# Altium integrated library Renesas Diode.IntLib: 1609 symbols (part 24 of 31)
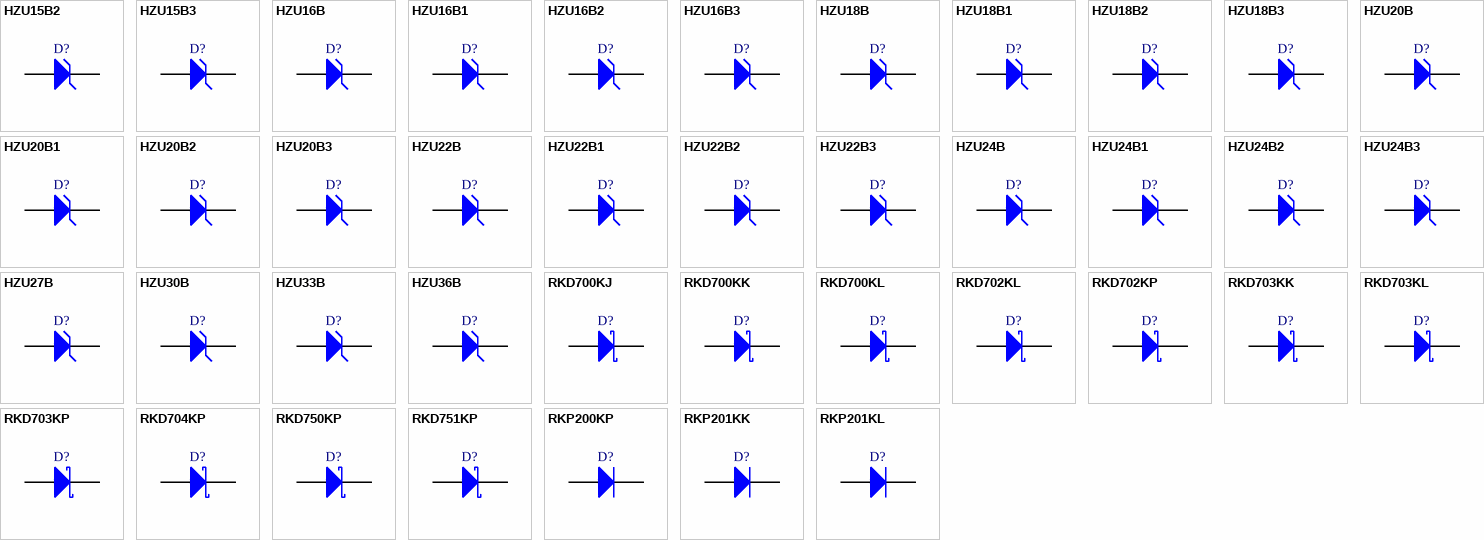
[diagram p68: symbols HZU15B2 to RKP201KL]

## RKD703KK
designator D?
Silicon Schottky Barrier Diode for High Speed Switching; Published: 12-Feb-2010; DatasheetVersion: Rev.2.00, Nov-2009; PackageVersion: Oct-2006; PackageReference: PUSF0002ZB-A; Publisher: Altium Limited; PackageDescription: 2-Pin Plastic Small Outline Diode, Flat Leads, Body 0.6 x 1.0 mm (SFP); ComponentLink1Description: Manufacturer Link; ComponentLink1URL: http://sg.renesas.com/fmwk.jsp?cnt=diode_landing.jsp&fp=/products/discrete/diodes/; ComponentLink2Description: Datasheet; ComponentLink2URL: http://documentation.renesas.com/eng/products/diode/rej03g1833_rkd703kkds.pdf; ComponentLink3Description: Packaging Specification; ComponentLink3URL: http://sg.renesas.com/media/products/common_info/package/pdf/diode/code/pusf0002zb_a.pdf
footprint PUSF0002ZB-A (SOD, 2-Flat Leads, Body 0.6x1.0x0.55mm, Renesas Recommended)
signal-integrity model RKD703KK
pins: 1 K, 2 A

## RKD703KL
designator D?
Silicon Schottky Barrier Diode for high Speed Switching; Published: 12-Feb-2010; DatasheetVersion: Rev.2.00, Oct-2009; PackageVersion: Oct-2006; PackageReference: PXSF0002ZA-A; Publisher: Altium Limited; PackageDescription: 2-Pin Plastic Small Outline Diode, Flat Leads, Body 0.6 x 0.8 mm (EFP); ComponentLink1Description: Manufacturer Link; ComponentLink1URL: http://sg.renesas.com/fmwk.jsp?cnt=diode_landing.jsp&fp=/products/discrete/diodes/; ComponentLink2Description: Datasheet; ComponentLink2URL: http://documentation.renesas.com/eng/products/diode/rej03g1756_rkd703klds.pdf; ComponentLink3Description: Packaging Specification; ComponentLink3URL: http://sg.renesas.com/media/products/common_info/package/pdf/diode/code/pxsf0002za_a.pdf
footprint PXSF0002ZA-A (SOD, 2-Flat Leads, Body 0.6x0.8x0.5mm, Renesas Recommended)
signal-integrity model RKD703KL
pins: 1 K, 2 A

## RKD703KP
designator D?
Silicon Schottky Barrier Diode for High Speed Switching; Published: 12-Feb-2010; DatasheetVersion: Rev.1.00, Nov-2008; PackageVersion: Jul-2006; PackageReference: PXSN0002ZB-A; Publisher: Altium Limited; PackageDescription: Chip Diode 0201 Case Size; ComponentLink1Description: Manufacturer Link; ComponentLink1URL: http://sg.renesas.com/fmwk.jsp?cnt=diode_landing.jsp&fp=/products/discrete/diodes/; ComponentLink2Description: Datasheet; ComponentLink2URL: http://documentation.renesas.com/eng/products/diode/rej03g1757_rkd703kpds.pdf; ComponentLink3Description: Packaging Specification; ComponentLink3URL: http://sg.renesas.com/media/products/common_info/package/pdf/diode/code/pxsn0002zb_a.pdf
footprint PXSN0002ZB-A_V (Chip Diode; Body 0.62x0.32mm, Renesas Recommended)
footprint PXSN0002ZB-A_N (Chip Diode; Body 0.62x0.32mm, IPC Medium Density)
footprint PXSN0002ZB-A_L (Chip Diode; Body 0.62x0.32mm, IPC High Density)
footprint PXSN0002ZB-A_M (Chip Diode; Body 0.62x0.32mm, IPC Low Density)
signal-integrity model RKD703KP
pins: 1 K, 2 A

## RKD704KP
designator D?
Silicon Schottky Barrier Diode for High Speed Switching; Published: 12-Feb-2010; DatasheetVersion: Rev.1.00, Jun-2009; PackageVersion: Jul-2006; PackageReference: PXSN0002ZB-A; Publisher: Altium Limited; PackageDescription: Chip Diode 0201 Case Size; ComponentLink1Description: Manufacturer Link; ComponentLink1URL: http://sg.renesas.com/fmwk.jsp?cnt=diode_landing.jsp&fp=/products/discrete/diodes/; ComponentLink2Description: Datasheet; ComponentLink2URL: http://documentation.renesas.com/eng/products/diode/rej03g1781_rkd704kpds.pdf; ComponentLink3Description: Packaging Specification; ComponentLink3URL: http://sg.renesas.com/media/products/common_info/package/pdf/diode/code/pxsn0002zb_a.pdf
footprint PXSN0002ZB-A_V (Chip Diode; Body 0.62x0.32mm, Renesas Recommended)
footprint PXSN0002ZB-A_N (Chip Diode; Body 0.62x0.32mm, IPC Medium Density)
footprint PXSN0002ZB-A_L (Chip Diode; Body 0.62x0.32mm, IPC High Density)
footprint PXSN0002ZB-A_M (Chip Diode; Body 0.62x0.32mm, IPC Low Density)
signal-integrity model RKD704KP
pins: 1 K, 2 A

## RKD750KP
designator D?
Silicon Schottky Barrier Diode for Detector; Published: 12-Feb-2010; DatasheetVersion: Rev.2.00, Feb-2007; PackageVersion: Jul-2006; PackageReference: PXSN0002ZB-A; Publisher: Altium Limited; PackageDescription: Chip Diode 0201 Case Size; ComponentLink1Description: Manufacturer Link; ComponentLink1URL: http://sg.renesas.com/fmwk.jsp?cnt=diode_landing.jsp&fp=/products/discrete/diodes/; ComponentLink2Description: Datasheet; ComponentLink2URL: http://documentation.renesas.com/eng/products/diode/rej03g1460_rkd750kp.pdf; ComponentLink3Description: Packaging Specification; ComponentLink3URL: http://sg.renesas.com/media/products/common_info/package/pdf/diode/code/pxsn0002zb_a.pdf
footprint PXSN0002ZB-A_V (Chip Diode; Body 0.62x0.32mm, Renesas Recommended)
footprint PXSN0002ZB-A_N (Chip Diode; Body 0.62x0.32mm, IPC Medium Density)
footprint PXSN0002ZB-A_L (Chip Diode; Body 0.62x0.32mm, IPC High Density)
footprint PXSN0002ZB-A_M (Chip Diode; Body 0.62x0.32mm, IPC Low Density)
signal-integrity model RKD750KP
pins: 1 K, 2 A

## RKD751KP
designator D?
Silicon Schottky Barrier Diode for Detector; Published: 12-Feb-2010; DatasheetVersion: Rev.2.00, Feb-2007; PackageVersion: Jul-2006; PackageReference: PXSN0002ZB-A; Publisher: Altium Limited; PackageDescription: Chip Diode 0201 Case Size; ComponentLink1Description: Manufacturer Link; ComponentLink1URL: http://sg.renesas.com/fmwk.jsp?cnt=diode_landing.jsp&fp=/products/discrete/diodes/; ComponentLink2Description: Datasheet; ComponentLink2URL: http://documentation.renesas.com/eng/products/diode/rej03g1485_rkd751kp.pdf; ComponentLink3Description: Packaging Specification; ComponentLink3URL: http://sg.renesas.com/media/products/common_info/package/pdf/diode/code/pxsn0002zb_a.pdf
footprint PXSN0002ZB-A_V (Chip Diode; Body 0.62x0.32mm, Renesas Recommended)
footprint PXSN0002ZB-A_N (Chip Diode; Body 0.62x0.32mm, IPC Medium Density)
footprint PXSN0002ZB-A_L (Chip Diode; Body 0.62x0.32mm, IPC High Density)
footprint PXSN0002ZB-A_M (Chip Diode; Body 0.62x0.32mm, IPC Low Density)
signal-integrity model RKD751KP
pins: 1 K, 2 A

## RKP200KP
designator D?
Silicon Epitaxial Planar Pin Diode for Antenna Switching; Published: 12-Feb-2010; DatasheetVersion: Rev.3.00, Feb-2007; PackageVersion: Jul-2006; PackageReference: PXSN0002ZB-A; Publisher: Altium Limited; PackageDescription: Chip Diode 0201 Case Size; ComponentLink1Description: Manufacturer Link; ComponentLink1URL: http://sg.renesas.com/fmwk.jsp?cnt=diode_landing.jsp&fp=/products/discrete/diodes/; ComponentLink2Description: Datasheet; ComponentLink2URL: http://documentation.renesas.com/eng/products/diode/rej03g1303_rkp200kp.pdf; ComponentLink3Description: Packaging Specification; ComponentLink3URL: http://sg.renesas.com/media/products/common_info/package/pdf/diode/code/pxsn0002zb_a.pdf
footprint PXSN0002ZB-A_V (Chip Diode; Body 0.62x0.32mm, Renesas Recommended)
footprint PXSN0002ZB-A_N (Chip Diode; Body 0.62x0.32mm, IPC Medium Density)
footprint PXSN0002ZB-A_L (Chip Diode; Body 0.62x0.32mm, IPC High Density)
footprint PXSN0002ZB-A_M (Chip Diode; Body 0.62x0.32mm, IPC Low Density)
signal-integrity model RKP200KP
pins: 1 K, 2 A

## RKP201KK
designator D?
Silicon Epitaxial Trench Pin Diode for Antenna Switching; Published: 12-Feb-2010; DatasheetVersion: Rev.2.00, Sep-2005; PackageVersion: Oct-2006; PackageReference: PUSF0002ZB-A; Publisher: Altium Limited; PackageDescription: 2-Pin Plastic Small Outline Diode, Flat Leads, Body 0.6 x 1.0 mm (SFP); ComponentLink1Description: Manufacturer Link; ComponentLink1URL: http://sg.renesas.com/fmwk.jsp?cnt=diode_landing.jsp&fp=/products/discrete/diodes/; ComponentLink2Description: Datasheet; ComponentLink2URL: http://documentation.renesas.com/eng/products/diode/rej03g1224_rkp201kk.pdf; ComponentLink3Description: Packaging Specification; ComponentLink3URL: http://sg.renesas.com/media/products/common_info/package/pdf/diode/code/pusf0002zb_a.pdf
footprint PUSF0002ZB-A (SOD, 2-Flat Leads, Body 0.6x1.0x0.55mm, Renesas Recommended)
signal-integrity model RKP201KK
pins: 1 K, 2 A

## RKP201KL
designator D?
Silicon Epitaxial Trench Pin Diode for Antenna Switching; Published: 12-Feb-2010; DatasheetVersion: Rev.2.00, Sep-2005; PackageVersion: Oct-2006; PackageReference: PXSF0002ZA-A; Publisher: Altium Limited; PackageDescription: 2-Pin Plastic Small Outline Diode, Flat Leads, Body 0.6 x 0.8 mm (EFP); ComponentLink1Description: Manufacturer Link; ComponentLink1URL: http://sg.renesas.com/fmwk.jsp?cnt=diode_landing.jsp&fp=/products/discrete/diodes/; ComponentLink2Description: Datasheet; ComponentLink2URL: http://documentation.renesas.com/eng/products/diode/rej03g1225_rkp201kl.pdf; ComponentLink3Description: Packaging Specification; ComponentLink3URL: http://sg.renesas.com/media/products/common_info/package/pdf/diode/code/pxsf0002za_a.pdf
footprint PXSF0002ZA-A (SOD, 2-Flat Leads, Body 0.6x0.8x0.5mm, Renesas Recommended)
signal-integrity model RKP201KL
pins: 1 K, 2 A

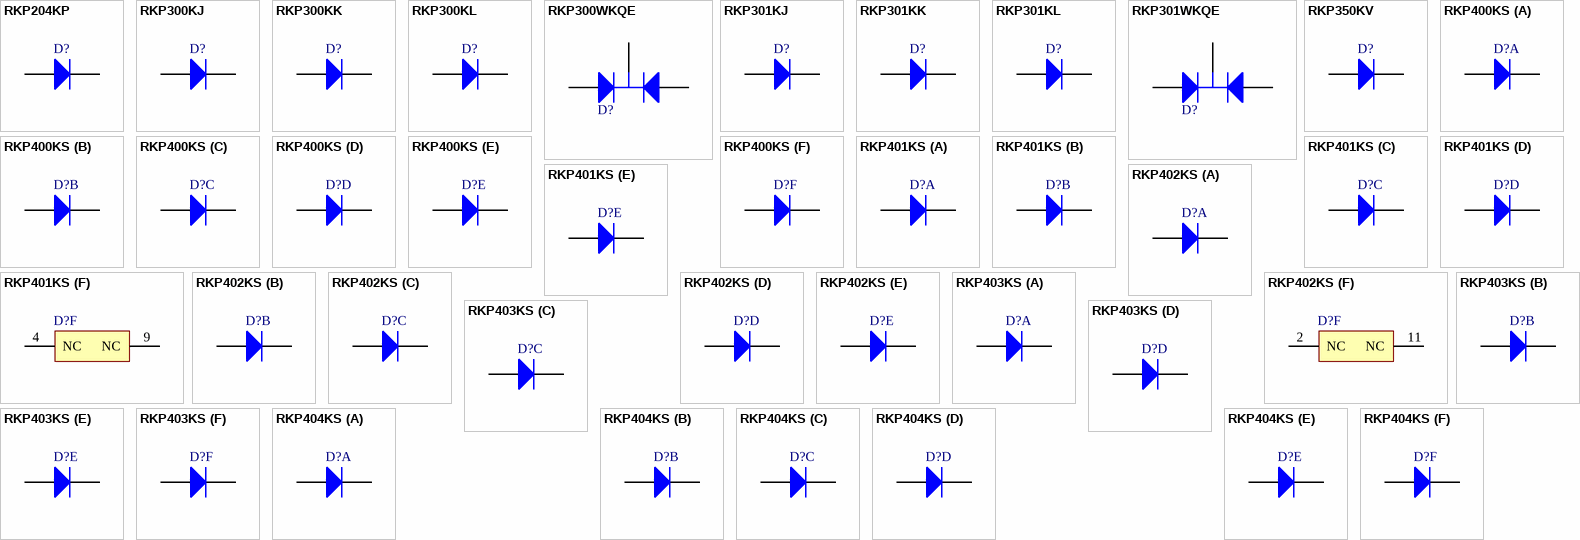
[diagram p33: symbols RKP204KP to RKP404KS]

## RKP204KP
designator D?
Silicon Epitaxial Planar Pin Diode for Antenna Switching; Published: 12-Feb-2010; DatasheetVersion: Rev.1.00, Jun-2007; PackageVersion: Jul-2006; PackageReference: PXSN0002ZB-A; Publisher: Altium Limited; PackageDescription: Chip Diode 0201 Case Size; ComponentLink1Description: Manufacturer Link; ComponentLink1URL: http://sg.renesas.com/fmwk.jsp?cnt=diode_landing.jsp&fp=/products/discrete/diodes/; ComponentLink2Description: Datasheet; ComponentLink2URL: http://documentation.renesas.com/eng/products/diode/rej03g1555_rkp204kpds.pdf; ComponentLink3Description: Packaging Specification; ComponentLink3URL: http://sg.renesas.com/media/products/common_info/package/pdf/diode/code/pxsn0002zb_a.pdf
footprint PXSN0002ZB-A_V (Chip Diode; Body 0.62x0.32mm, Renesas Recommended)
footprint PXSN0002ZB-A_N (Chip Diode; Body 0.62x0.32mm, IPC Medium Density)
footprint PXSN0002ZB-A_L (Chip Diode; Body 0.62x0.32mm, IPC High Density)
footprint PXSN0002ZB-A_M (Chip Diode; Body 0.62x0.32mm, IPC Low Density)
signal-integrity model RKP204KP
pins: 1 K, 2 A

## RKP300KJ
designator D?
Silicon Epitaxial Planar Pin Diode for Wireless LAN; Published: 12-Feb-2010; DatasheetVersion: Rev.1.00, Jan-2008; PackageVersion: Oct-2006; PackageReference: PWSF0002ZA-A; Publisher: Altium Limited; PackageDescription: 2-Pin Plastic Small Outline Diode, Flat Leads, Body 0.8 x 1.2 mm (UFP); Code_JEITA: SC-79; ComponentLink1Description: Manufacturer Link; ComponentLink1URL: http://sg.renesas.com/fmwk.jsp?cnt=diode_landing.jsp&fp=/products/discrete/diodes/; ComponentLink2Description: Datasheet; ComponentLink2URL: http://documentation.renesas.com/eng/products/diode/rej03g1615_rkp300kjds.pdf; ComponentLink3Description: Packaging Specification; ComponentLink3URL: http://sg.renesas.com/media/products/common_info/package/pdf/diode/code/pwsf0002za_a.pdf
footprint PWSF0002ZA-A (SOD, 2-Flat Leads, Body 0.8x1.2x0.7mm, Renesas Recommended)
signal-integrity model RKP300KJ
pins: 1 K, 2 A

## RKP300KK
designator D?
Silicon Epitaxial Planar Pin Diode for Wireless LAN; Published: 12-Feb-2010; DatasheetVersion: Rev.1.00, Jan-2008; PackageVersion: Oct-2006; PackageReference: PUSF0002ZB-A; Publisher: Altium Limited; PackageDescription: 2-Pin Plastic Small Outline Diode, Flat Leads, Body 0.6 x 1.0 mm (SFP); ComponentLink1Description: Manufacturer Link; ComponentLink1URL: http://sg.renesas.com/fmwk.jsp?cnt=diode_landing.jsp&fp=/products/discrete/diodes/; ComponentLink2Description: Datasheet; ComponentLink2URL: http://documentation.renesas.com/eng/products/diode/rej03g1616_rkp300kkds.pdf; ComponentLink3Description: Packaging Specification; ComponentLink3URL: http://sg.renesas.com/media/products/common_info/package/pdf/diode/code/pusf0002zb_a.pdf
footprint PUSF0002ZB-A (SOD, 2-Flat Leads, Body 0.6x1.0x0.55mm, Renesas Recommended)
signal-integrity model RKP300KK
pins: 1 K, 2 A

## RKP300KL
designator D?
Silicon Epitaxial Planar Pin Diode for Wireless LAN; Published: 12-Feb-2010; DatasheetVersion: Rev.1.00, Apr-2006; PackageVersion: Oct-2006; PackageReference: PXSF0002ZA-A; Publisher: Altium Limited; PackageDescription: 2-Pin Plastic Small Outline Diode, Flat Leads, Body 0.6 x 0.8 mm (EFP); ComponentLink1Description: Manufacturer Link; ComponentLink1URL: http://sg.renesas.com/fmwk.jsp?cnt=diode_landing.jsp&fp=/products/discrete/diodes/; ComponentLink2Description: Datasheet; ComponentLink2URL: http://documentation.renesas.com/eng/products/diode/rej03g1372_rkp300kl.pdf; ComponentLink3Description: Packaging Specification; ComponentLink3URL: http://sg.renesas.com/media/products/common_info/package/pdf/diode/code/pxsf0002za_a.pdf
footprint PXSF0002ZA-A (SOD, 2-Flat Leads, Body 0.6x0.8x0.5mm, Renesas Recommended)
signal-integrity model RKP300KL
pins: 1 K, 2 A

## RKP300WKQE
designator D?
Silicon Epitaxial Planar Pin Diode for Antenna Switching; Published: 12-Feb-2010; DatasheetVersion: Rev.1.00, Aug-2008; PackageVersion: Sep-2005; PackageReference: PTSP0003ZB-A; Publisher: Altium Limited; PackageDescription: 3-Pin Plastic SOT-23 Package 0.65 mm Pitch, 2.1 mm Lead Span (CMPAK); Code_JEITA: SC-70; ComponentLink1Description: Manufacturer Link; ComponentLink1URL: http://sg.renesas.com/fmwk.jsp?cnt=diode_landing.jsp&fp=/products/discrete/diodes/; ComponentLink2Description: Datasheet; ComponentLink2URL: http://documentation.renesas.com/eng/products/diode/rej03g1730_rkp300wkqeds.pdf; ComponentLink3Description: Packaging Specification; ComponentLink3URL: http://sg.renesas.com/media/products/common_info/package/pdf/diode/code/ptsp0003zb_a.pdf
footprint PTSP0003ZB-A_N (SOT23, 3-Leads, Body 2.0 x1.25mm, Pitch 0.65mm, Lead Span 2.1mm, IPC Medium Density)
footprint PTSP0003ZB-A_L (SOT23, 3-Leads, Body 2.0 x1.25mm, Pitch 0.65mm, Lead Span 2.1mm, IPC High Density)
footprint PTSP0003ZB-A_M (SOT23, 3-Leads, Body 2.0 x1.25mm, Pitch 0.65mm, Lead Span 2.1mm, IPC Low Density)
signal-integrity model RKP300WKQE
pins: 1 A1, 2 A2, 3 K

## RKP301KJ
designator D?
Silicon Epitaxial Planar Pin Diode for Antenna Switching; Published: 12-Feb-2010; DatasheetVersion: Rev.1.00, May-2008; PackageVersion: Oct-2006; PackageReference: PWSF0002ZA-A; Publisher: Altium Limited; PackageDescription: 2-Pin Plastic Small Outline Diode, Flat Leads, Body 0.8 x 1.2 mm (UFP); Code_JEITA: SC-79; ComponentLink1Description: Manufacturer Link; ComponentLink1URL: http://sg.renesas.com/fmwk.jsp?cnt=diode_landing.jsp&fp=/products/discrete/diodes/; ComponentLink2Description: Datasheet; ComponentLink2URL: http://documentation.renesas.com/eng/products/diode/rej03g1686_rkp301kjds.pdf; ComponentLink3Description: Packaging Specification; ComponentLink3URL: http://sg.renesas.com/media/products/common_info/package/pdf/diode/code/pwsf0002za_a.pdf
footprint PWSF0002ZA-A (SOD, 2-Flat Leads, Body 0.8x1.2x0.7mm, Renesas Recommended)
signal-integrity model RKP301KJ
pins: 1 K, 2 A

## RKP301KK
designator D?
Silicon Epitaxial Planar Pin Diode for Antenna Switching; Published: 12-Feb-2010; DatasheetVersion: Rev.1.00, May-2008; PackageVersion: Oct-2006; PackageReference: PUSF0002ZB-A; Publisher: Altium Limited; PackageDescription: 2-Pin Plastic Small Outline Diode, Flat Leads, Body 0.6 x 1.0 mm (SFP); ComponentLink1Description: Manufacturer Link; ComponentLink1URL: http://sg.renesas.com/fmwk.jsp?cnt=diode_landing.jsp&fp=/products/discrete/diodes/; ComponentLink2Description: Datasheet; ComponentLink2URL: http://documentation.renesas.com/eng/products/diode/rej03g1687_rkp301kkds.pdf; ComponentLink3Description: Packaging Specification; ComponentLink3URL: http://sg.renesas.com/media/products/common_info/package/pdf/diode/code/pusf0002zb_a.pdf
footprint PUSF0002ZB-A (SOD, 2-Flat Leads, Body 0.6x1.0x0.55mm, Renesas Recommended)
signal-integrity model RKP301KK
pins: 1 K, 2 A

## RKP301KL
designator D?
Silicon Epitaxial Planar Pin Diode for Antenna Switching; Published: 12-Feb-2010; DatasheetVersion: Rev.1.00, May-2008; PackageVersion: Oct-2006; PackageReference: PXSF0002ZA-A; Publisher: Altium Limited; PackageDescription: 2-Pin Plastic Small Outline Diode, Flat Leads, Body 0.6 x 0.8 mm (EFP); ComponentLink1Description: Manufacturer Link; ComponentLink1URL: http://sg.renesas.com/fmwk.jsp?cnt=diode_landing.jsp&fp=/products/discrete/diodes/; ComponentLink2Description: Datasheet; ComponentLink2URL: http://documentation.renesas.com/eng/products/diode/rej03g1688_rkp301klds.pdf; ComponentLink3Description: Packaging Specification; ComponentLink3URL: http://sg.renesas.com/media/products/common_info/package/pdf/diode/code/pxsf0002za_a.pdf
footprint PXSF0002ZA-A (SOD, 2-Flat Leads, Body 0.6x0.8x0.5mm, Renesas Recommended)
signal-integrity model RKP301KL
pins: 1 K, 2 A

## RKP301WKQE
designator D?
Silicon Epitaxial Planar Pin Diode for Antenna Switching; Published: 12-Feb-2010; DatasheetVersion: Rev.1.00, May-2008; PackageVersion: Sep-2005; PackageReference: PTSP0003ZB-A; Publisher: Altium Limited; PackageDescription: 3-Pin Plastic SOT-23 Package 0.65 mm Pitch, 2.1 mm Lead Span (CMPAK); Code_JEITA: SC-70; ComponentLink1Description: Manufacturer Link; ComponentLink1URL: http://sg.renesas.com/fmwk.jsp?cnt=diode_landing.jsp&fp=/products/discrete/diodes/; ComponentLink2Description: Datasheet; ComponentLink2URL: http://documentation.renesas.com/eng/products/diode/rej03g1689_rkp301wkqeds.pdf; ComponentLink3Description: Packaging Specification; ComponentLink3URL: http://sg.renesas.com/media/products/common_info/package/pdf/diode/code/ptsp0003zb_a.pdf
footprint PTSP0003ZB-A_N (SOT23, 3-Leads, Body 2.0 x1.25mm, Pitch 0.65mm, Lead Span 2.1mm, IPC Medium Density)
footprint PTSP0003ZB-A_L (SOT23, 3-Leads, Body 2.0 x1.25mm, Pitch 0.65mm, Lead Span 2.1mm, IPC High Density)
footprint PTSP0003ZB-A_M (SOT23, 3-Leads, Body 2.0 x1.25mm, Pitch 0.65mm, Lead Span 2.1mm, IPC Low Density)
signal-integrity model RKP301WKQE
pins: 1 A1, 2 A2, 3 K

## RKP350KV
designator D?
Silicon Epitaxial Planar Diode for Antenna Switch; Published: 12-Feb-2010; DatasheetVersion: Rev.1.00, Nov-2009; PackageVersion: Sep-2009; PackageReference: PWSF0002ZB-A; Publisher: Altium Limited; PackageDescription: 2-Pin Plastic Small Outline Diode, Flat Leads, Body 1.6 x 2.6 mm; ComponentLink1Description: Manufacturer Link; ComponentLink1URL: http://sg.renesas.com/fmwk.jsp?cnt=diode_landing.jsp&fp=/products/discrete/diodes/; ComponentLink2Description: Datasheet; ComponentLink2URL: http://documentation.renesas.com/eng/products/diode/rej03g1861_rkp350kvds.pdf; ComponentLink3Description: Packaging Specification; ComponentLink3URL: http://sg.renesas.com/media/products/common_info/package/pdf/diode/code/pwsf0002zb_a.pdf
footprint PWSF0002ZB-A (SOD, 2-Flat Leads, Body 1.6x2.6x0.8mm, Renesas Recommended)
signal-integrity model RKP350KV
pins: 1 K, 2 A

## RKP400KS
designator D?
Composite Pin Diode for Antenna Switching; Published: 12-Feb-2010; DatasheetVersion: Rev.2.00, Jul-2006; PackageVersion: Sep-2005; PackageReference: PUSF0012ZA-A; Publisher: Altium Limited; PackageDescription: 10-Pin Dual Multi-Chip Lead-Flat Package 0.43 mm Pitch (MFP12); ComponentLink1Description: Manufacturer Link; ComponentLink1URL: http://sg.renesas.com/fmwk.jsp?cnt=diode_landing.jsp&fp=/products/discrete/diodes/; ComponentLink2Description: Datasheet; ComponentLink2URL: http://documentation.renesas.com/eng/products/transistor/rej03g1257_rkp400ks.pdf; ComponentLink3Description: Packaging Specification; ComponentLink3URL: http://sg.renesas.com/media/products/common_info/package/pdf/diode/code/pusf0012za_a.pdf
footprint PUSF0012ZA-A (SOP, 12-Flat Leads, Body 2.7x1.2x0.5mm, Pitch 0.43mm, Renesas Recommended)
signal-integrity model RKP400KS
part A pins: 1 K, 2 A
part B pins: 3 K, 4 A
part C pins: 5 A, 6 K
part D pins: 7 A, 8 K
part E pins: 9 A, 10 K
part F pins: 11 A, 12 K

## RKP401KS
designator D?
Composite Pin Diode for Antenna Switching; Published: 12-Feb-2010; DatasheetVersion: Rev.2.00, Jul-2006; PackageVersion: Sep-2005; PackageReference: PUSF0012ZA-A; Publisher: Altium Limited; PackageDescription: 10-Pin Dual Multi-Chip Lead-Flat Package 0.43 mm Pitch (MFP12); ComponentLink1Description: Manufacturer Link; ComponentLink1URL: http://sg.renesas.com/fmwk.jsp?cnt=diode_landing.jsp&fp=/products/discrete/diodes/; ComponentLink2Description: Datasheet; ComponentLink2URL: http://documentation.renesas.com/eng/products/diode/rej03g1345_rkp401ks.pdf; ComponentLink3Description: Packaging Specification; ComponentLink3URL: http://sg.renesas.com/media/products/common_info/package/pdf/diode/code/pusf0012za_a.pdf
footprint PUSF0012ZA-A (SOP, 12-Flat Leads, Body 2.7x1.2x0.5mm, Pitch 0.43mm, Renesas Recommended)
signal-integrity model RKP401KS
part A pins: 1 K, 2 A
part B pins: 3 K, 10 A
part C pins: 5 K, 6 A
part D pins: 7 A, 8 K
part E pins: 11 K, 12 A
part F pins: 4 NC, 9 NC

## RKP402KS
designator D?
Silicon Epitaxial Planar Pin Diode for Antenna Switching; Published: 12-Feb-2010; DatasheetVersion: Rev.3.00, Mar-2007; PackageVersion: Sep-2005; PackageReference: PUSF0012ZA-A; Publisher: Altium Limited; PackageDescription: 10-Pin Dual Multi-Chip Lead-Flat Package 0.43 mm Pitch (MFP12); ComponentLink1Description: Manufacturer Link; ComponentLink1URL: http://sg.renesas.com/fmwk.jsp?cnt=diode_landing.jsp&fp=/products/discrete/diodes/; ComponentLink2Description: Datasheet; ComponentLink2URL: http://documentation.renesas.com/eng/products/diode/rej03g1346_rkp402ks.pdf; ComponentLink3Description: Packaging Specification; ComponentLink3URL: http://sg.renesas.com/media/products/common_info/package/pdf/diode/code/pusf0012za_a.pdf
footprint PUSF0012ZA-A (SOP, 12-Flat Leads, Body 2.7x1.2x0.5mm, Pitch 0.43mm, Renesas Recommended)
signal-integrity model RKP402KS
part A pins: 1 K, 12 A
part B pins: 3 K, 4 A
part C pins: 5 A, 6 K
part D pins: 7 A, 8 K
part E pins: 9 K, 10 A
part F pins: 2 NC, 11 NC

## RKP403KS
designator D?
Composite Pin Diode for Antenna Switching; Published: 12-Feb-2010; DatasheetVersion: Rev.2.00, Jul-2006; PackageVersion: Sep-2005; PackageReference: PUSF0012ZA-A; Publisher: Altium Limited; PackageDescription: 10-Pin Dual Multi-Chip Lead-Flat Package 0.43 mm Pitch (MFP12); ComponentLink1Description: Manufacturer Link; ComponentLink1URL: http://sg.renesas.com/fmwk.jsp?cnt=diode_landing.jsp&fp=/products/discrete/diodes/; ComponentLink2Description: Datasheet; ComponentLink2URL: http://documentation.renesas.com/eng/products/diode/rej03g1347_rkp403ks.pdf; ComponentLink3Description: Packaging Specification; ComponentLink3URL: http://sg.renesas.com/media/products/common_info/package/pdf/diode/code/pusf0012za_a.pdf
footprint PUSF0012ZA-A (SOP, 12-Flat Leads, Body 2.7x1.2x0.5mm, Pitch 0.43mm, Renesas Recommended)
signal-integrity model RKP403KS
part A pins: 1 K, 2 A
part B pins: 3 A, 4 K
part C pins: 5 A, 6 K
part D pins: 7 A, 8 K
part E pins: 9 A, 10 K
part F pins: 11 A, 12 K

## RKP404KS
designator D?
Composite Pin Diode for Antenna Switching; Published: 12-Feb-2010; DatasheetVersion: Rev.2.00, Jul-2006; PackageVersion: Sep-2005; PackageReference: PUSF0012ZA-A; Publisher: Altium Limited; PackageDescription: 10-Pin Dual Multi-Chip Lead-Flat Package 0.43 mm Pitch (MFP12); ComponentLink1Description: Manufacturer Link; ComponentLink1URL: http://sg.renesas.com/fmwk.jsp?cnt=diode_landing.jsp&fp=/products/discrete/diodes/; ComponentLink2Description: Datasheet; ComponentLink2URL: http://documentation.renesas.com/eng/products/diode/rej03g1348_rkp404ks.pdf; ComponentLink3Description: Packaging Specification; ComponentLink3URL: http://sg.renesas.com/media/products/common_info/package/pdf/diode/code/pusf0012za_a.pdf
footprint PUSF0012ZA-A (SOP, 12-Flat Leads, Body 2.7x1.2x0.5mm, Pitch 0.43mm, Renesas Recommended)
signal-integrity model RKP404KS
part A pins: 1 K, 2 A
part B pins: 3 K, 10 A
part C pins: 4 K, 9 A
part D pins: 5 A, 6 K
part E pins: 7 A, 8 K
part F pins: 11 A, 12 K

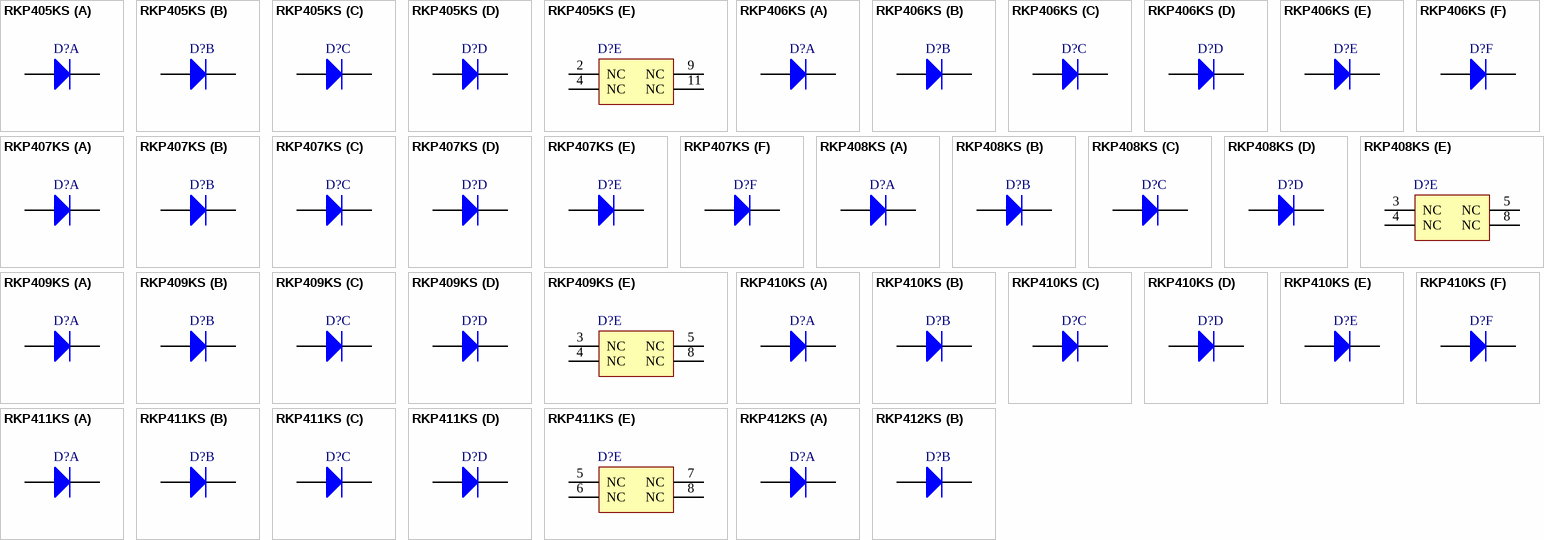
[diagram p34: symbols RKP405KS to RKP412KS]

## RKP405KS
designator D?
Composite Pin Diode for Antenna Switching; Published: 12-Feb-2010; DatasheetVersion: Rev.1.00, Apr-2007; PackageVersion: Sep-2005; PackageReference: PUSF0012ZA-A; Publisher: Altium Limited; PackageDescription: 10-Pin Dual Multi-Chip Lead-Flat Package 0.43 mm Pitch (MFP12); ComponentLink1Description: Manufacturer Link; ComponentLink1URL: http://sg.renesas.com/fmwk.jsp?cnt=diode_landing.jsp&fp=/products/discrete/diodes/; ComponentLink2Description: Datasheet; ComponentLink2URL: http://documentation.renesas.com/eng/products/diode/rej03g1543_rkp405ksds.pdf; ComponentLink3Description: Packaging Specification; ComponentLink3URL: http://sg.renesas.com/media/products/common_info/package/pdf/diode/code/pusf0012za_a.pdf
footprint PUSF0012ZA-A (SOP, 12-Flat Leads, Body 2.7x1.2x0.5mm, Pitch 0.43mm, Renesas Recommended)
signal-integrity model RKP405KS
part A pins: 1 K, 12 A
part B pins: 3 K, 10 A
part C pins: 5 A, 6 K
part D pins: 7 K, 8 A
part E pins: 2 NC, 4 NC, 9 NC, 11 NC

## RKP406KS
designator D?
Composite Pin Diode for Antenna Switching; Published: 12-Feb-2010; DatasheetVersion: Rev.1.00, Jul-2006; PackageVersion: Sep-2005; PackageReference: PUSF0012ZA-A; Publisher: Altium Limited; PackageDescription: 10-Pin Dual Multi-Chip Lead-Flat Package 0.43 mm Pitch (MFP12); ComponentLink1Description: Manufacturer Link; ComponentLink1URL: http://sg.renesas.com/fmwk.jsp?cnt=diode_landing.jsp&fp=/products/discrete/diodes/; ComponentLink2Description: Datasheet; ComponentLink2URL: http://documentation.renesas.com/eng/products/diode/rej03g1461_rkp406ks.pdf; ComponentLink3Description: Packaging Specification; ComponentLink3URL: http://sg.renesas.com/media/products/common_info/package/pdf/diode/code/pusf0012za_a.pdf
footprint PUSF0012ZA-A (SOP, 12-Flat Leads, Body 2.7x1.2x0.5mm, Pitch 0.43mm, Renesas Recommended)
signal-integrity model RKP406KS
part A pins: 1 K, 2 A
part B pins: 3 K, 10 A
part C pins: 4 A, 9 K
part D pins: 5 A, 6 K
part E pins: 7 K, 8 A
part F pins: 11 A, 12 K

## RKP407KS
designator D?
Composite Pin Diode for Antenna Switching; Published: 12-Feb-2010; DatasheetVersion: Rev.1.00, Jul-2006; PackageVersion: Sep-2005; PackageReference: PUSF0012ZA-A; Publisher: Altium Limited; PackageDescription: 10-Pin Dual Multi-Chip Lead-Flat Package 0.43 mm Pitch (MFP12); ComponentLink1Description: Manufacturer Link; ComponentLink1URL: http://sg.renesas.com/fmwk.jsp?cnt=diode_landing.jsp&fp=/products/discrete/diodes/; ComponentLink2Description: Datasheet; ComponentLink2URL: http://documentation.renesas.com/eng/products/diode/rej03g1462_rkp407ks.pdf; ComponentLink3Description: Packaging Specification; ComponentLink3URL: http://sg.renesas.com/media/products/common_info/package/pdf/diode/code/pusf0012za_a.pdf
footprint PUSF0012ZA-A (SOP, 12-Flat Leads, Body 2.7x1.2x0.5mm, Pitch 0.43mm, Renesas Recommended)
signal-integrity model RKP407KS
part A pins: 1 K, 12 A
part B pins: 2 A, 3 K
part C pins: 4 A, 9 K
part D pins: 5 A, 6 K
part E pins: 7 K, 8 A
part F pins: 10 A, 11 K

## RKP408KS
designator D?
Composite Pin Diode for Antenna Switching; Published: 12-Feb-2010; DatasheetVersion: Rev.2.00, Jun-2007; PackageVersion: Sep-2005; PackageReference: PUSF0012ZA-A; Publisher: Altium Limited; PackageDescription: 10-Pin Dual Multi-Chip Lead-Flat Package 0.43 mm Pitch (MFP12); ComponentLink1Description: Manufacturer Link; ComponentLink1URL: http://sg.renesas.com/fmwk.jsp?cnt=diode_landing.jsp&fp=/products/discrete/diodes/; ComponentLink2Description: Datasheet; ComponentLink2URL: http://documentation.renesas.com/eng/products/diode/rej03g1500_rkp408ks.pdf; ComponentLink3Description: Packaging Specification; ComponentLink3URL: http://sg.renesas.com/media/products/common_info/package/pdf/diode/code/pusf0012za_a.pdf
footprint PUSF0012ZA-A (SOP, 12-Flat Leads, Body 2.7x1.2x0.5mm, Pitch 0.43mm, Renesas Recommended)
signal-integrity model RKP408KS
part A pins: 1 K, 2 A
part B pins: 6 K, 7 A
part C pins: 9 A, 10 K
part D pins: 11 A, 12 K
part E pins: 3 NC, 4 NC, 5 NC, 8 NC

## RKP409KS
designator D?
Composite Pin Diode for Antenna Switching; Published: 12-Feb-2010; DatasheetVersion: Rev.2.00, Jun-2007; PackageVersion: Sep-2005; PackageReference: PUSF0012ZA-A; Publisher: Altium Limited; PackageDescription: 10-Pin Dual Multi-Chip Lead-Flat Package 0.43 mm Pitch (MFP12); ComponentLink1Description: Manufacturer Link; ComponentLink1URL: http://sg.renesas.com/fmwk.jsp?cnt=diode_landing.jsp&fp=/products/discrete/diodes/; ComponentLink2Description: Datasheet; ComponentLink2URL: http://documentation.renesas.com/eng/products/diode/rej03g1501_rkp409ks.pdf; ComponentLink3Description: Packaging Specification; ComponentLink3URL: http://sg.renesas.com/media/products/common_info/package/pdf/diode/code/pusf0012za_a.pdf
footprint PUSF0012ZA-A (SOP, 12-Flat Leads, Body 2.7x1.2x0.5mm, Pitch 0.43mm, Renesas Recommended)
signal-integrity model RKP409KS
part A pins: 1 K, 2 A
part B pins: 6 K, 7 A
part C pins: 9 A, 10 K
part D pins: 11 A, 12 K
part E pins: 3 NC, 4 NC, 5 NC, 8 NC

## RKP410KS
designator D?
Composite Pin Diode for Antenna Switching; Published: 12-Feb-2010; DatasheetVersion: Rev.2.00, Jun-2007; PackageVersion: Sep-2005; PackageReference: PUSF0012ZA-A; Publisher: Altium Limited; PackageDescription: 10-Pin Dual Multi-Chip Lead-Flat Package 0.43 mm Pitch (MFP12); ComponentLink1Description: Manufacturer Link; ComponentLink1URL: http://sg.renesas.com/fmwk.jsp?cnt=diode_landing.jsp&fp=/products/discrete/diodes/; ComponentLink2Description: Datasheet; ComponentLink2URL: http://documentation.renesas.com/eng/products/diode/rej03g1544_rkp410ksds.pdf; ComponentLink3Description: Packaging Specification; ComponentLink3URL: http://sg.renesas.com/media/products/common_info/package/pdf/diode/code/pusf0012za_a.pdf
footprint PUSF0012ZA-A (SOP, 12-Flat Leads, Body 2.7x1.2x0.5mm, Pitch 0.43mm, Renesas Recommended)
signal-integrity model RKP410KS
part A pins: 1 K, 2 A
part B pins: 3 A, 4 K
part C pins: 5 K, 8 A
part D pins: 6 K, 7 A
part E pins: 9 A, 10 K
part F pins: 11 A, 12 K

## RKP411KS
designator D?
Composite Pin Diode for Antenna Switching; Published: 12-Feb-2010; DatasheetVersion: Rev.2.00, Sep-2007; PackageVersion: Sep-2005; PackageReference: PUSF0012ZA-A; Publisher: Altium Limited; PackageDescription: 10-Pin Dual Multi-Chip Lead-Flat Package 0.43 mm Pitch (MFP12); ComponentLink1Description: Manufacturer Link; ComponentLink1URL: http://sg.renesas.com/fmwk.jsp?cnt=diode_landing.jsp&fp=/products/discrete/diodes/; ComponentLink2Description: Datasheet; ComponentLink2URL: http://documentation.renesas.com/eng/products/diode/rej03g1574_rkp411ksds.pdf; ComponentLink3Description: Packaging Specification; ComponentLink3URL: http://sg.renesas.com/media/products/common_info/package/pdf/diode/code/pusf0012za_a.pdf
footprint PUSF0012ZA-A (SOP, 12-Flat Leads, Body 2.7x1.2x0.5mm, Pitch 0.43mm, Renesas Recommended)
signal-integrity model RKP411KS
part A pins: 1 K, 2 A
part B pins: 3 A, 4 K
part C pins: 9 A, 10 K
part D pins: 11 A, 12 K
part E pins: 5 NC, 6 NC, 7 NC, 8 NC

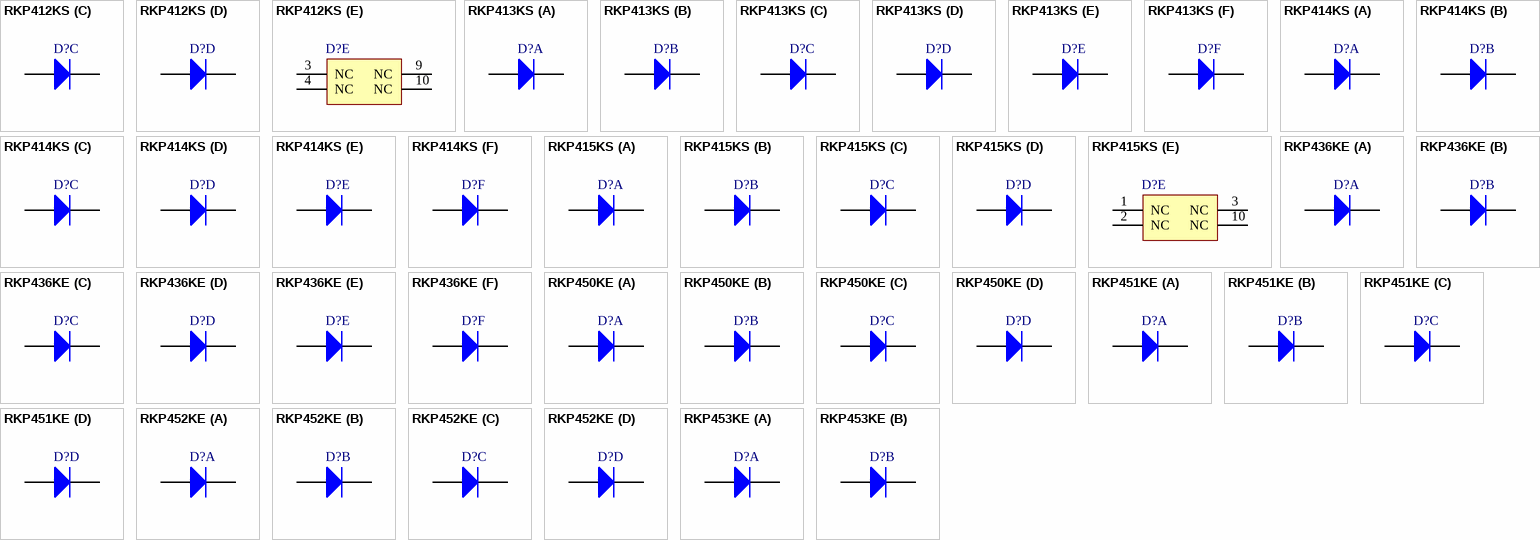
[diagram p35: symbols RKP412KS to RKP453KE]

## RKP412KS
designator D?
Composite Pin Diode for Antenna Switching; Published: 12-Feb-2010; DatasheetVersion: Rev.1.00, Sep-2007; PackageVersion: Sep-2005; PackageReference: PUSF0012ZA-A; Publisher: Altium Limited; PackageDescription: 10-Pin Dual Multi-Chip Lead-Flat Package 0.43 mm Pitch (MFP12); ComponentLink1Description: Manufacturer Link; ComponentLink1URL: http://sg.renesas.com/fmwk.jsp?cnt=diode_landing.jsp&fp=/products/discrete/diodes/; ComponentLink2Description: Datasheet; ComponentLink2URL: http://documentation.renesas.com/eng/products/diode/rej03g1578_rkp412ksds.pdf; ComponentLink3Description: Packaging Specification; ComponentLink3URL: http://sg.renesas.com/media/products/common_info/package/pdf/diode/code/pusf0012za_a.pdf
footprint PUSF0012ZA-A (SOP, 12-Flat Leads, Body 2.7x1.2x0.5mm, Pitch 0.43mm, Renesas Recommended)
signal-integrity model RKP412KS
part A pins: 1 K, 2 A
part B pins: 5 K, 6 A
part C pins: 7 A, 8 K
part D pins: 11 K, 12 A
part E pins: 3 NC, 4 NC, 9 NC, 10 NC

## RKP413KS
designator D?
Composite Pin Diode for Antenna Switching; Published: 12-Feb-2010; DatasheetVersion: Rev.1.00, Jan-2008; PackageVersion: Sep-2005; PackageReference: PUSF0012ZA-A; Publisher: Altium Limited; PackageDescription: 10-Pin Dual Multi-Chip Lead-Flat Package 0.43 mm Pitch (MFP12); ComponentLink1Description: Manufacturer Link; ComponentLink1URL: http://sg.renesas.com/fmwk.jsp?cnt=diode_landing.jsp&fp=/products/discrete/diodes/; ComponentLink2Description: Datasheet; ComponentLink2URL: http://documentation.renesas.com/eng/products/diode/rej03g1613_rkp413ksds.pdf; ComponentLink3Description: Packaging Specification; ComponentLink3URL: http://sg.renesas.com/media/products/common_info/package/pdf/diode/code/pusf0012za_a.pdf
footprint PUSF0012ZA-A (SOP, 12-Flat Leads, Body 2.7x1.2x0.5mm, Pitch 0.43mm, Renesas Recommended)
signal-integrity model RKP413KS
part A pins: 1 K, 2 A
part B pins: 3 K, 4 A
part C pins: 5 K, 8 A
part D pins: 6 A, 7 K
part E pins: 9 K, 10 A
part F pins: 11 A, 12 K

## RKP414KS
designator D?
Composite Pin Diode for Antenna Switching; Published: 12-Feb-2010; DatasheetVersion: Rev.1.00, Jan-2008; PackageVersion: Sep-2005; PackageReference: PUSF0012ZA-A; Publisher: Altium Limited; PackageDescription: 10-Pin Dual Multi-Chip Lead-Flat Package 0.43 mm Pitch (MFP12); ComponentLink1Description: Manufacturer Link; ComponentLink1URL: http://sg.renesas.com/fmwk.jsp?cnt=diode_landing.jsp&fp=/products/discrete/diodes/; ComponentLink2Description: Datasheet; ComponentLink2URL: http://documentation.renesas.com/eng/products/diode/rej03g1614_rkp414ksds.pdf; ComponentLink3Description: Packaging Specification; ComponentLink3URL: http://sg.renesas.com/media/products/common_info/package/pdf/diode/code/pusf0012za_a.pdf
footprint PUSF0012ZA-A (SOP, 12-Flat Leads, Body 2.7x1.2x0.5mm, Pitch 0.43mm, Renesas Recommended)
signal-integrity model RKP414KS
part A pins: 1 K, 2 A
part B pins: 3 A, 4 K
part C pins: 5 K, 8 A
part D pins: 6 K, 7 A
part E pins: 9 A, 10 K
part F pins: 11 A, 12 K

## RKP415KS
designator D?
Composite Pin Diode for Antenna Switching; Published: 12-Feb-2010; DatasheetVersion: Rev.1.00, Nov-2008; PackageVersion: Sep-2005; PackageReference: PUSF0012ZA-A; Publisher: Altium Limited; PackageDescription: 10-Pin Dual Multi-Chip Lead-Flat Package 0.43 mm Pitch (MFP12); ComponentLink1Description: Manufacturer Link; ComponentLink1URL: http://sg.renesas.com/fmwk.jsp?cnt=diode_landing.jsp&fp=/products/discrete/diodes/; ComponentLink2Description: Datasheet; ComponentLink2URL: http://documentation.renesas.com/eng/products/diode/rej03g1737_rkp415ksds.pdf; ComponentLink3Description: Packaging Specification; ComponentLink3URL: http://sg.renesas.com/media/products/common_info/package/pdf/diode/code/pusf0012za_a.pdf
footprint PUSF0012ZA-A (SOP, 12-Flat Leads, Body 2.7x1.2x0.5mm, Pitch 0.43mm, Renesas Recommended)
signal-integrity model RKP415KS
part A pins: 4 A, 9 K
part B pins: 5 A, 6 K
part C pins: 7 K, 8 A
part D pins: 11 A, 12 K
part E pins: 1 NC, 2 NC, 3 NC, 10 NC

## RKP436KE
designator D?
Ultra small Package Composite Pin Diode for Antenna Switching; Published: 12-Feb-2010; DatasheetVersion: Rev.1.00, Nov-2009; PackageVersion: Aug-2009; PackageReference: PXSN0012ZA-A; Publisher: Altium Limited; PackageDescription: 12-Pin Leadless Ultra Small Package, 2.47 × 0.67 mm Body, 0.42mm Pitch; ComponentLink1Description: Manufacturer Link; ComponentLink1URL: http://sg.renesas.com/fmwk.jsp?cnt=diode_landing.jsp&fp=/products/discrete/diodes/; ComponentLink2Description: Datasheet; ComponentLink2URL: http://documentation.renesas.com/eng/products/transistor/rej03g1864_rkp436keds.pdf; ComponentLink3Description: Packaging Specification; ComponentLink3URL: http://sg.renesas.com/media/products/common_info/package/pdf/diode/code/pxsn0012za_a.pdf
footprint PXSN0012ZA-A_V (SON, 12-Leads, Body 2.47×0.67mm, Pitch 0.42mm, Renesas Recommended)
signal-integrity model RKP436KE
part A pins: 1 K, 2 A
part B pins: 3 K, 10 A
part C pins: 4 K, 9 A
part D pins: 5 A, 6 K
part E pins: 7 A, 8 K
part F pins: 11 A, 12 K

## RKP450KE
designator D?
Ultra small Package Composite Pin Diode for Antenna Switching; Published: 12-Feb-2010; DatasheetVersion: Rev.1.00, Apr-2008; PackageVersion: Apr-2008; PackageReference: PXSN0008ZA-A; Publisher: Altium Limited; PackageDescription: 8-Pin Leadless Ultra Small Package, 1.63 × 0.67 mm Body, 0.42mm Pitch; ComponentLink1Description: Manufacturer Link; ComponentLink1URL: http://sg.renesas.com/fmwk.jsp?cnt=diode_landing.jsp&fp=/products/discrete/diodes/; ComponentLink2Description: Datasheet; ComponentLink2URL: http://documentation.renesas.com/eng/products/diode/rej03g1664_rkp450keds.pdf; ComponentLink3Description: Packaging Specification; ComponentLink3URL: http://sg.renesas.com/media/products/common_info/package/pdf/diode/code/pxsn0008za_a.pdf
footprint PXSN0008ZA-A_V (SON, 8-Leads, Body 1.63×0.67mm, Pitch 0.42mm, Renesas Recommended)
signal-integrity model RKP450KE
part A pins: 1 A, 8 K
part B pins: 2 A, 7 K
part C pins: 3 A, 4 K
part D pins: 5 K, 6 A

## RKP451KE
designator D?
Ultra small Package Composite Pin Diode for Antenna Switching; Published: 12-Feb-2010; DatasheetVersion: Rev.1.00, Jun-2008; PackageVersion: Apr-2008; PackageReference: PXSN0008ZA-A; Publisher: Altium Limited; PackageDescription: 8-Pin Leadless Ultra Small Package, 1.63 × 0.67 mm Body, 0.42mm Pitch; ComponentLink1Description: Manufacturer Link; ComponentLink1URL: http://sg.renesas.com/fmwk.jsp?cnt=diode_landing.jsp&fp=/products/discrete/diodes/; ComponentLink2Description: Datasheet; ComponentLink2URL: http://documentation.renesas.com/eng/products/diode/rej03g1694_rkp451keds.pdf; ComponentLink3Description: Packaging Specification; ComponentLink3URL: http://sg.renesas.com/media/products/common_info/package/pdf/diode/code/pxsn0008za_a.pdf
footprint PXSN0008ZA-A_V (SON, 8-Leads, Body 1.63×0.67mm, Pitch 0.42mm, Renesas Recommended)
signal-integrity model RKP451KE
part A pins: 1 A, 2 K
part B pins: 3 A, 4 K
part C pins: 5 K, 6 A
part D pins: 7 K, 8 A

## RKP452KE
designator D?
Ultra small Package Composite Pin Diode for Antenna Switching; Published: 12-Feb-2010; DatasheetVersion: Rev.1.00, Jun-2008; PackageVersion: Apr-2008; PackageReference: PXSN0008ZA-A; Publisher: Altium Limited; PackageDescription: 8-Pin Leadless Ultra Small Package, 1.63 × 0.67 mm Body, 0.42mm Pitch; ComponentLink1Description: Manufacturer Link; ComponentLink1URL: http://sg.renesas.com/fmwk.jsp?cnt=diode_landing.jsp&fp=/products/discrete/diodes/; ComponentLink2Description: Datasheet; ComponentLink2URL: http://documentation.renesas.com/eng/products/diode/rej03g1695_rkp452keds.pdf; ComponentLink3Description: Packaging Specification; ComponentLink3URL: http://sg.renesas.com/media/products/common_info/package/pdf/diode/code/pxsn0008za_a.pdf
footprint PXSN0008ZA-A_V (SON, 8-Leads, Body 1.63×0.67mm, Pitch 0.42mm, Renesas Recommended)
signal-integrity model RKP452KE
part A pins: 1 K, 2 A
part B pins: 3 A, 4 K
part C pins: 5 K, 6 A
part D pins: 7 K, 8 A

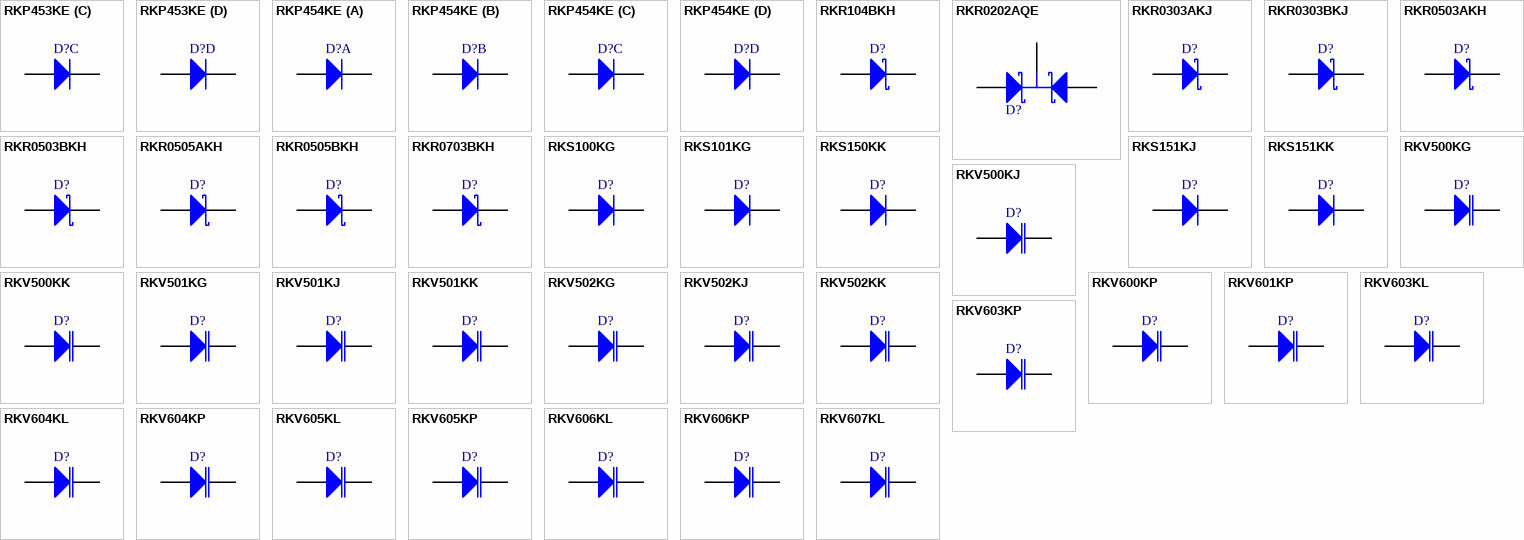
[diagram p36: symbols RKP453KE to RKV607KL]

## RKP453KE
designator D?
Ultra small Package Composite Pin Diode for Antenna Switching; Published: 12-Feb-2010; DatasheetVersion: Rev.1.00, Jun-2008; PackageVersion: Apr-2008; PackageReference: PXSN0008ZA-A; Publisher: Altium Limited; PackageDescription: 8-Pin Leadless Ultra Small Package, 1.63 × 0.67 mm Body, 0.42mm Pitch; ComponentLink1Description: Manufacturer Link; ComponentLink1URL: http://sg.renesas.com/fmwk.jsp?cnt=diode_landing.jsp&fp=/products/discrete/diodes/; ComponentLink2Description: Datasheet; ComponentLink2URL: http://documentation.renesas.com/eng/products/diode/rej03g1696_rkp453keds.pdf; ComponentLink3Description: Packaging Specification; ComponentLink3URL: http://sg.renesas.com/media/products/common_info/package/pdf/diode/code/pxsn0008za_a.pdf
footprint PXSN0008ZA-A_V (SON, 8-Leads, Body 1.63×0.67mm, Pitch 0.42mm, Renesas Recommended)
signal-integrity model RKP453KE
part A pins: 1 K, 2 A
part B pins: 3 A, 4 K
part C pins: 5 A, 6 K
part D pins: 7 A, 8 K

## RKP454KE
designator D?
Ultra small Package Composite Pin Diode for Antenna Switching; Published: 12-Feb-2010; DatasheetVersion: Rev.1.00, Jun-2008; PackageVersion: Apr-2008; PackageReference: PXSN0008ZA-A; Publisher: Altium Limited; PackageDescription: 8-Pin Leadless Ultra Small Package, 1.63 × 0.67 mm Body, 0.42mm Pitch; ComponentLink1Description: Manufacturer Link; ComponentLink1URL: http://sg.renesas.com/fmwk.jsp?cnt=diode_landing.jsp&fp=/products/discrete/diodes/; ComponentLink2Description: Datasheet; ComponentLink2URL: http://documentation.renesas.com/eng/products/diode/rej03g1697_rkp454keds.pdf; ComponentLink3Description: Packaging Specification; ComponentLink3URL: http://sg.renesas.com/media/products/common_info/package/pdf/diode/code/pxsn0008za_a.pdf
footprint PXSN0008ZA-A_V (SON, 8-Leads, Body 1.63×0.67mm, Pitch 0.42mm, Renesas Recommended)
signal-integrity model RKP454KE
part A pins: 1 K, 2 A
part B pins: 3 A, 6 K
part C pins: 4 A, 5 K
part D pins: 7 A, 8 K

## RKR104BKH
designator D?
Silicon Schottky Barrier Diode for Rectifying; Published: 12-Feb-2010; DatasheetVersion: Rev.2.00, Mar-2008; PackageVersion: Oct-2006; PackageReference: PUSF0002ZC-A; Publisher: Altium Limited; PackageDescription: 2-Pin Plastic Small Outline Diode, Flat Leads, Body 1.25 x 1.9 mm; ComponentLink1Description: Manufacturer Link; ComponentLink1URL: http://sg.renesas.com/fmwk.jsp?cnt=diode_landing.jsp&fp=/products/discrete/diodes/; ComponentLink2Description: Datasheet; ComponentLink2URL: http://documentation.renesas.com/eng/products/diode/rej03g1476_rkr104bkh.pdf; ComponentLink3Description: Packaging Specification; ComponentLink3URL: http://sg.renesas.com/media/products/common_info/package/pdf/diode/code/pusf0002zc_a.pdf
footprint PUSF0002ZC-A (SOD, 2-Flat Leads, Body 1.25x1.9x0.55mm, Renesas Recommended)
signal-integrity model RKR104BKH
pins: 1 K, 2 A

## RKR0202AQE
designator D?
Silicon Schottky Barrier Diode for Rectifying; Published: 12-Feb-2010; DatasheetVersion: Rev.1.00, Jun-2008; PackageVersion: Sep-2005; PackageReference: PTSP0003ZB-A; Publisher: Altium Limited; PackageDescription: 3-Pin Plastic SOT-23 Package 0.65 mm Pitch, 2.1 mm Lead Span (CMPAK); Code_JEITA: SC-70; ComponentLink1Description: Manufacturer Link; ComponentLink1URL: http://sg.renesas.com/fmwk.jsp?cnt=diode_landing.jsp&fp=/products/discrete/diodes/; ComponentLink2Description: Datasheet; ComponentLink2URL: http://documentation.renesas.com/eng/products/diode/rej03g1699_rkr0202aqeds.pdf; ComponentLink3Description: Packaging Specification; ComponentLink3URL: http://sg.renesas.com/media/products/common_info/package/pdf/diode/code/ptsp0003zb_a.pdf
footprint PTSP0003ZB-A_N (SOT23, 3-Leads, Body 2.0 x1.25mm, Pitch 0.65mm, Lead Span 2.1mm, IPC Medium Density)
footprint PTSP0003ZB-A_L (SOT23, 3-Leads, Body 2.0 x1.25mm, Pitch 0.65mm, Lead Span 2.1mm, IPC High Density)
footprint PTSP0003ZB-A_M (SOT23, 3-Leads, Body 2.0 x1.25mm, Pitch 0.65mm, Lead Span 2.1mm, IPC Low Density)
signal-integrity model RKR0202AQE
pins: 1 A1, 2 A2, 3 K

## RKR0303AKJ
designator D?
Silicon Schottky Barrier Diode for Rectifying; Published: 12-Feb-2010; DatasheetVersion: Rev.1.00, Nov-2008; PackageVersion: Oct-2006; PackageReference: PWSF0002ZA-A; Publisher: Altium Limited; PackageDescription: 2-Pin Plastic Small Outline Diode, Flat Leads, Body 0.8 x 1.2 mm (UFP); Code_JEITA: SC-79; ComponentLink1Description: Manufacturer Link; ComponentLink1URL: http://sg.renesas.com/fmwk.jsp?cnt=diode_landing.jsp&fp=/products/discrete/diodes/; ComponentLink2Description: Datasheet; ComponentLink2URL: http://documentation.renesas.com/eng/products/diode/rej03g1738_rkr0303akjds.pdf; ComponentLink3Description: Packaging Specification; ComponentLink3URL: http://sg.renesas.com/media/products/common_info/package/pdf/diode/code/pwsf0002za_a.pdf
footprint PWSF0002ZA-A (SOD, 2-Flat Leads, Body 0.8x1.2x0.7mm, Renesas Recommended)
signal-integrity model RKR0303AKJ
pins: 1 K, 2 A

## RKR0303BKJ
designator D?
Silicon Schottky Barrier Diode for Rectifying; Published: 12-Feb-2010; DatasheetVersion: Rev.1.00, Nov-2008; PackageVersion: Oct-2006; PackageReference: PWSF0002ZA-A; Publisher: Altium Limited; PackageDescription: 2-Pin Plastic Small Outline Diode, Flat Leads, Body 0.8 x 1.2 mm (UFP); Code_JEITA: SC-79; ComponentLink1Description: Manufacturer Link; ComponentLink1URL: http://sg.renesas.com/fmwk.jsp?cnt=diode_landing.jsp&fp=/products/discrete/diodes/; ComponentLink2Description: Datasheet; ComponentLink2URL: http://documentation.renesas.com/eng/products/diode/rej03g1739_rkr0303bkjds.pdf; ComponentLink3Description: Packaging Specification; ComponentLink3URL: http://sg.renesas.com/media/products/common_info/package/pdf/diode/code/pwsf0002za_a.pdf
footprint PWSF0002ZA-A (SOD, 2-Flat Leads, Body 0.8x1.2x0.7mm, Renesas Recommended)
signal-integrity model RKR0303BKJ
pins: 1 K, 2 A

## RKR0503AKH
designator D?
Silicon Schottky Barrier Diode for Rectifying; Published: 12-Feb-2010; DatasheetVersion: Rev.1.00, Nov-2008; PackageVersion: Oct-2006; PackageReference: PUSF0002ZC-A; Publisher: Altium Limited; PackageDescription: 2-Pin Plastic Small Outline Diode, Flat Leads, Body 1.25 x 1.9 mm; ComponentLink1Description: Manufacturer Link; ComponentLink1URL: http://sg.renesas.com/fmwk.jsp?cnt=diode_landing.jsp&fp=/products/discrete/diodes/; ComponentLink2Description: Datasheet; ComponentLink2URL: http://documentation.renesas.com/eng/products/diode/rej03g1740_rkr0503akhds.pdf; ComponentLink3Description: Packaging Specification; ComponentLink3URL: http://sg.renesas.com/media/products/common_info/package/pdf/diode/code/pusf0002zc_a.pdf
footprint PUSF0002ZC-A (SOD, 2-Flat Leads, Body 1.25x1.9x0.55mm, Renesas Recommended)
signal-integrity model RKR0503AKH
pins: 1 K, 2 A

## RKR0503BKH
designator D?
Silicon Schottky Barrier Diode for Rectifying; Published: 12-Feb-2010; DatasheetVersion: Rev.1.00, Nov-2008; PackageVersion: Oct-2006; PackageReference: PUSF0002ZC-A; Publisher: Altium Limited; PackageDescription: 2-Pin Plastic Small Outline Diode, Flat Leads, Body 1.25 x 1.9 mm; ComponentLink1Description: Manufacturer Link; ComponentLink1URL: http://sg.renesas.com/fmwk.jsp?cnt=diode_landing.jsp&fp=/products/discrete/diodes/; ComponentLink2Description: Datasheet; ComponentLink2URL: http://documentation.renesas.com/eng/products/diode/rej03g1741_rkr0503bkhds.pdf; ComponentLink3Description: Packaging Specification; ComponentLink3URL: http://sg.renesas.com/media/products/common_info/package/pdf/diode/code/pusf0002zc_a.pdf
footprint PUSF0002ZC-A (SOD, 2-Flat Leads, Body 1.25x1.9x0.55mm, Renesas Recommended)
signal-integrity model RKR0503BKH
pins: 1 K, 2 A

## RKR0505AKH
designator D?
Silicon Schottky Barrier Diode for Rectifying; Published: 12-Feb-2010; DatasheetVersion: Rev.2.00, Apr-2008; PackageVersion: Oct-2006; PackageReference: PUSF0002ZC-A; Publisher: Altium Limited; PackageDescription: 2-Pin Plastic Small Outline Diode, Flat Leads, Body 1.25 x 1.9 mm; ComponentLink1Description: Manufacturer Link; ComponentLink1URL: http://sg.renesas.com/fmwk.jsp?cnt=diode_landing.jsp&fp=/products/discrete/diodes/; ComponentLink2Description: Datasheet; ComponentLink2URL: http://documentation.renesas.com/eng/products/diode/rej03g1493_rkr0505akh.pdf; ComponentLink3Description: Packaging Specification; ComponentLink3URL: http://sg.renesas.com/media/products/common_info/package/pdf/diode/code/pusf0002zc_a.pdf
footprint PUSF0002ZC-A (SOD, 2-Flat Leads, Body 1.25x1.9x0.55mm, Renesas Recommended)
signal-integrity model RKR0505AKH
pins: 1 K, 2 A

## RKR0505BKH
designator D?
Silicon Schottky Barrier Diode for Rectifying; Published: 12-Feb-2010; DatasheetVersion: Rev.2.00, Apr-2008; PackageVersion: Oct-2006; PackageReference: PUSF0002ZC-A; Publisher: Altium Limited; PackageDescription: 2-Pin Plastic Small Outline Diode, Flat Leads, Body 1.25 x 1.9 mm; ComponentLink1Description: Manufacturer Link; ComponentLink1URL: http://sg.renesas.com/fmwk.jsp?cnt=diode_landing.jsp&fp=/products/discrete/diodes/; ComponentLink2Description: Datasheet; ComponentLink2URL: http://documentation.renesas.com/eng/products/diode/rej03g1494_rkr0505bkh.pdf; ComponentLink3Description: Packaging Specification; ComponentLink3URL: http://sg.renesas.com/media/products/common_info/package/pdf/diode/code/pusf0002zc_a.pdf
footprint PUSF0002ZC-A (SOD, 2-Flat Leads, Body 1.25x1.9x0.55mm, Renesas Recommended)
signal-integrity model RKR0505BKH
pins: 1 K, 2 A

## RKR0703BKH
designator D?
Silicon Schottky Barrier Diode for Rectifying; Published: 12-Feb-2010; DatasheetVersion: Rev.2.00, Apr-2008; PackageVersion: Oct-2006; PackageReference: PUSF0002ZC-A; Publisher: Altium Limited; PackageDescription: 2-Pin Plastic Small Outline Diode, Flat Leads, Body 1.25 x 1.9 mm; ComponentLink1Description: Manufacturer Link; ComponentLink1URL: http://sg.renesas.com/fmwk.jsp?cnt=diode_landing.jsp&fp=/products/discrete/diodes/; ComponentLink2Description: Datasheet; ComponentLink2URL: http://documentation.renesas.com/eng/products/diode/rej03g1495_rkr0703bkh.pdf; ComponentLink3Description: Packaging Specification; ComponentLink3URL: http://sg.renesas.com/media/products/common_info/package/pdf/diode/code/pusf0002zc_a.pdf
footprint PUSF0002ZC-A (SOD, 2-Flat Leads, Body 1.25x1.9x0.55mm, Renesas Recommended)
signal-integrity model RKR0703BKH
pins: 1 K, 2 A